# Altium footprint library APS6404L-3SQR-SN.PcbLib: 3 footprints
Each footprint in its own frame and in the unit in brackets; x right, y up, seen from the top. Pads: shape width x height; smd on the part's side, far side on the other; paste and mask are expansions set on the pad; w line width, h text height; cw(c..) or ccw(c..) is an arc to the next point about the centre after c.
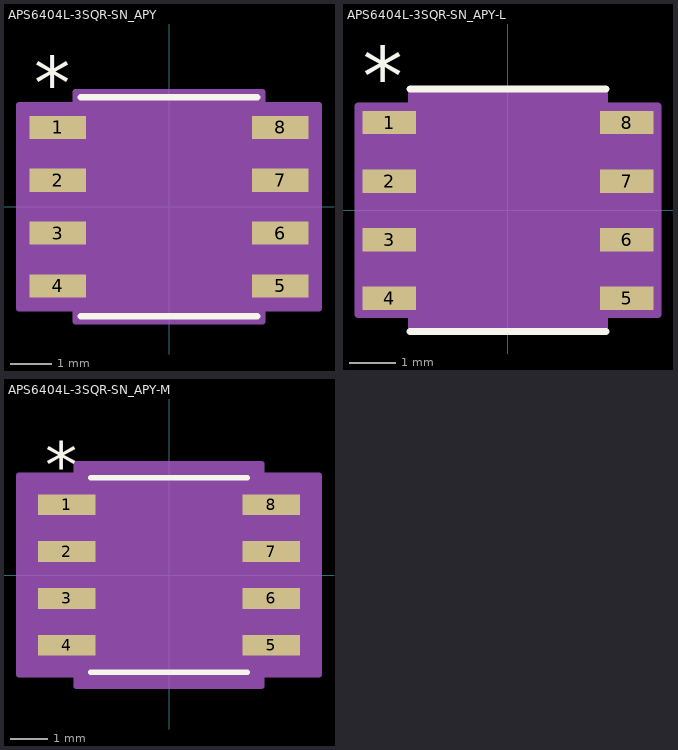
[diagram p0: the footprints below, top view; thin cyan lines are the x and y axes]

## APS6404L-3SQR-SN_APY [mil]
pads (8):
  rect 53.39x21.97 smd paste+0 mask+0: 1(-105.19,75) 2(-105.19,25) 3(-105.19,-25) 4(-105.19,-75) 5(105.19,-75) 6(105.19,-25) 7(105.19,25) 8(105.19,75)
Top Overlay:
  lines w6: -83.5,-103.5 83.5,-103.5 ; -83.5,103.5 83.5,103.5
  text ".Designator" at -137.5,-25 h50
  text "*" at -127.69,91.97 h50
Mechanical 13:
  lines w1: -12,98.5 ccw(c0,98.5) 12,98.5 ; -118.11,-85 -118.11,-65 -78.5,-65 -78.5,-85 -118.11,-85 ; -118.11,-35 -118.11,-15 -78.5,-15 -78.5,-35 -118.11,-35 ; -118.11,15 -118.11,35 -78.5,35 -78.5,15 -118.11,15 ; -118.11,65 -118.11,85 -78.5,85 -78.5,65 -118.11,65 ; -78.5,-98.5 78.5,-98.5 78.5,98.5 -78.5,98.5 -78.5,-98.5 ; 78.5,-85 78.5,-65 118.11,-65 118.11,-85 78.5,-85 ; 78.5,-35 78.5,-15 118.11,-15 118.11,-35 78.5,-35 ; 78.5,15 78.5,35 118.11,35 118.11,15 78.5,15 ; 78.5,65 78.5,85 118.11,85 118.11,65 78.5,65
  text "*" at -76,45.5 h50
  text ".Designator" at -137.5,-25 h50
Mechanical 15:
  region: -88.5,-95.98 -141.89,-95.98 -141.89,95.98 -88.5,95.98 -88.5,108.5 88.5,108.5 88.5,95.98 141.89,95.98 141.89,-95.98 88.5,-95.98 88.5,-108.5 -88.5,-108.5
  lines w6: -141.89,-95.98 -141.89,95.98 -88.5,95.98 -88.5,108.5 88.5,108.5 88.5,95.98 141.89,95.98 141.89,-95.98 88.5,-95.98 88.5,-108.5 -88.5,-108.5 -88.5,-95.98 -141.89,-95.98
3D body "APS6404L-3SQR-SN_APY.step": height 69.09, standoff 0, extent -118.11,-98.5 118.11,98.5

## APS6404L-3SQR-SN_APY-L [mil]
pads (8):
  rect 45.52x20 smd paste+0 mask+0: 1(-101.26,75) 2(-101.26,25) 3(-101.26,-25) 4(-101.26,-75) 5(101.26,-75) 6(101.26,-25) 7(101.26,25) 8(101.26,75)
Top Overlay:
  lines w6: -83.5,-103.5 83.5,-103.5 ; -83.5,103.5 83.5,103.5
  text ".Designator" at -137.5,-25 h50
  text "*" at -123.76,90 h50
Mechanical 13:
  lines w1: -12,98.5 ccw(c0,98.5) 12,98.5 ; -118.11,-85 -118.11,-65 -78.5,-65 -78.5,-85 -118.11,-85 ; -118.11,-35 -118.11,-15 -78.5,-15 -78.5,-35 -118.11,-35 ; -118.11,15 -118.11,35 -78.5,35 -78.5,15 -118.11,15 ; -118.11,65 -118.11,85 -78.5,85 -78.5,65 -118.11,65 ; -78.5,-98.5 78.5,-98.5 78.5,98.5 -78.5,98.5 -78.5,-98.5 ; 78.5,-85 78.5,-65 118.11,-65 118.11,-85 78.5,-85 ; 78.5,-35 78.5,-15 118.11,-15 118.11,-35 78.5,-35 ; 78.5,15 78.5,35 118.11,35 118.11,15 78.5,15 ; 78.5,65 78.5,85 118.11,85 118.11,65 78.5,65
  text "*" at -76,45.5 h50
  text ".Designator" at -137.5,-25 h50
Mechanical 15:
  region: -82.5,-89 -128.02,-89 -128.02,89 -82.5,89 -82.5,102.5 82.5,102.5 82.5,89 128.02,89 128.02,-89 82.5,-89 82.5,-102.5 -82.5,-102.5
  lines w6: -128.02,-89 -128.02,89 -82.5,89 -82.5,102.5 82.5,102.5 82.5,89 128.02,89 128.02,-89 82.5,-89 82.5,-102.5 -82.5,-102.5 -82.5,-89 -128.02,-89
3D body "APS6404L-3SQR-SN_APY.step": height 69.09, standoff 0, extent -118.11,-98.5 118.11,98.5

## APS6404L-3SQR-SN_APY-M [mil]
pads (8):
  rect 61.26x21.97 smd paste+0 mask+0: 1(-109.13,75) 2(-109.13,25) 3(-109.13,-25) 4(-109.13,-75) 5(109.13,-75) 6(109.13,-25) 7(109.13,25) 8(109.13,75)
Top Overlay:
  lines w6: -83.5,-103.5 83.5,-103.5 ; -83.5,103.5 83.5,103.5
  text ".Designator" at -137.5,-25 h50
  text "*" at -131.63,91.97 h50
Mechanical 13:
  lines w1: -12,98.5 ccw(c0,98.5) 12,98.5 ; -118.11,-85 -118.11,-65 -78.5,-65 -78.5,-85 -118.11,-85 ; -118.11,-35 -118.11,-15 -78.5,-15 -78.5,-35 -118.11,-35 ; -118.11,15 -118.11,35 -78.5,35 -78.5,15 -118.11,15 ; -118.11,65 -118.11,85 -78.5,85 -78.5,65 -118.11,65 ; -78.5,-98.5 78.5,-98.5 78.5,98.5 -78.5,98.5 -78.5,-98.5 ; 78.5,-85 78.5,-65 118.11,-65 118.11,-85 78.5,-85 ; 78.5,-35 78.5,-15 118.11,-15 118.11,-35 78.5,-35 ; 78.5,15 78.5,35 118.11,35 118.11,15 78.5,15 ; 78.5,65 78.5,85 118.11,85 118.11,65 78.5,65
  text "*" at -76,45.5 h50
  text ".Designator" at -137.5,-25 h50
Mechanical 15:
  region: -98.5,-105.98 -159.76,-105.98 -159.76,105.98 -98.5,105.98 -98.5,118.5 98.5,118.5 98.5,105.98 159.76,105.98 159.76,-105.98 98.5,-105.98 98.5,-118.5 -98.5,-118.5
  lines w6: -159.76,-105.98 -159.76,105.98 -98.5,105.98 -98.5,118.5 98.5,118.5 98.5,105.98 159.76,105.98 159.76,-105.98 98.5,-105.98 98.5,-118.5 -98.5,-118.5 -98.5,-105.98 -159.76,-105.98
3D body "APS6404L-3SQR-SN_APY.step": height 69.09, standoff 0, extent -118.11,-98.5 118.11,98.5